# EAGLE library part DRV8874PWPR (library DRV8874PWPR)
H-Bridge Motor Driver With Integrated Current Sense and Regulation Source: Datasheet <https://www.ti.com/lit/gpn/DRV8874>
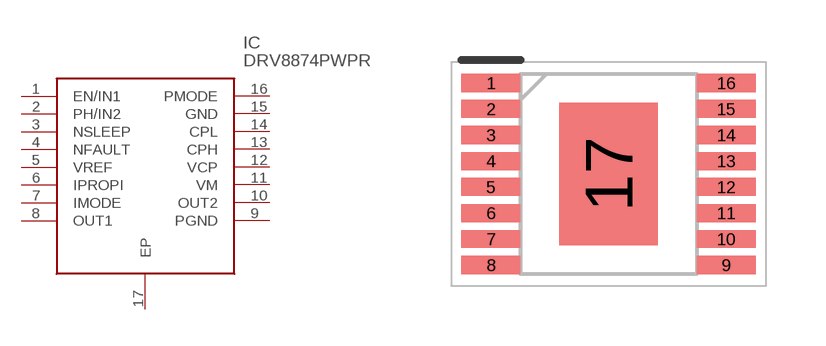
[diagram p0: symbol with the pads of SOP65P640X120-17N; footprint SOP65P640X120-17N]

Designator prefix IC

## DRV8874PWPR (Description: H-Bridge Motor Driver With Integrated Current Sense and Regulation; Height: 1.2mm; Manufacturer_Name: Texas Instruments; Manufacturer_Part_Number: DRV8874PWPR; Mouser_Part_Number: 595-DRV8874PWPR; Mouser_Price-Stock: https://www.mouser.co.uk/ProductDetail/Texas-Instruments/DRV8874PWPR?qs=mAH9sUMRCtvh%2FSU15ywmDA%3D%3D)  [SOP65P640X120-17N]
1  EN/IN1
2  PH/IN2
3  NSLEEP
4  NFAULT
5  VREF
6  IPROPI
7  IMODE
8  OUT1
9  PGND
10  OUT2
11  VM
12  VCP
13  CPH
14  CPL
15  GND
16  PMODE
17  EP

## Footprint SOP65P640X120-17N (pad centres in mm)
HTSSOP_16-
smd 1.475 x 0.45: 1 -2.938,2.275; 2 -2.938,1.625; 3 -2.938,0.975; 4 -2.938,0.325; 5 -2.938,-0.325; 6 -2.938,-0.975; 7 -2.938,-1.625; 8 -2.938,-2.275; 9 2.938,-2.275; 10 2.938,-1.625; 11 2.938,-0.975; 12 2.938,-0.325; 13 2.938,0.325; 14 2.938,0.975; 15 2.938,1.625; 16 2.938,2.275
smd 2.46 x 3.55: 17 0,0